# Altium footprint library TESTPAD_0.5MM.PcbLib: 1 footprints
Each footprint in its own frame and in the unit in brackets; x right, y up, seen from the top. Pads: shape width x height; smd on the part's side, far side on the other; paste and mask are expansions set on the pad; w line width, h text height; cw(c..) or ccw(c..) is an arc to the next point about the centre after c.
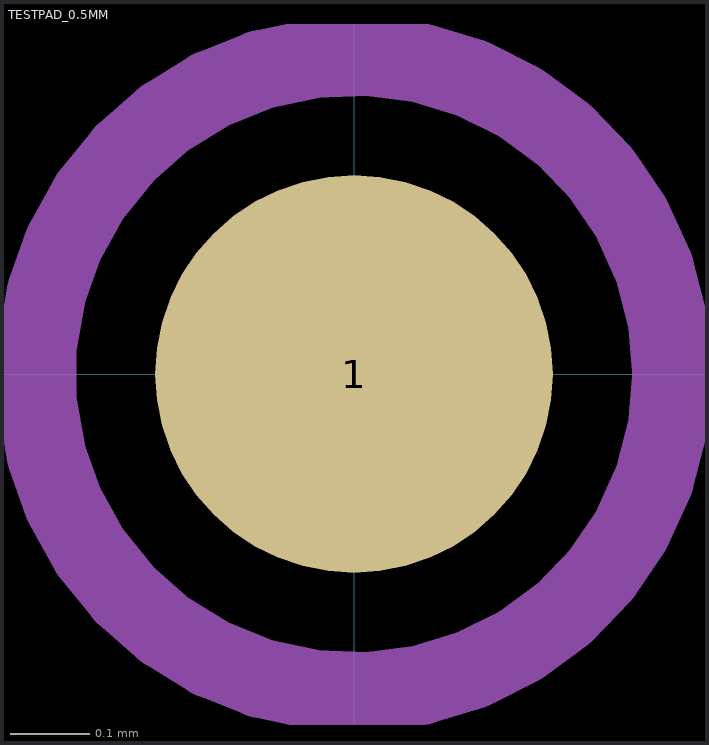
[diagram p0: the footprint, top view; thin cyan lines are the x and y axes]

## TESTPAD_0.5MM [mm] "Testpad 0.5mm"
pads (1):
  round 0.5 smd: 1(0,0)
Top Assembly:
  circle w0.1: c0,0 r0.4
Top Designator:
  text ".Designator" at -0.65,-0.043 h0.13